# Altium schematic symbol library SENSOR.SchLib: 1 symbol
Pins are listed as number, name and electrical type; pins without a type are passive.

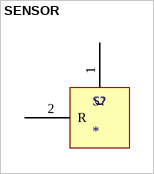
[diagram p0: symbol SENSOR]

## SENSOR
designator S?
footprint SENSOR
pins: 1 C, 2 R